# Altium footprint library C0805C105K3RACAUTO.PcbLib: 3 footprints
Each footprint in its own frame and in the unit in brackets; x right, y up, seen from the top. Pads: shape width x height; smd on the part's side, far side on the other; paste and mask are expansions set on the pad; w line width, h text height; cw(c..) or ccw(c..) is an arc to the next point about the centre after c.
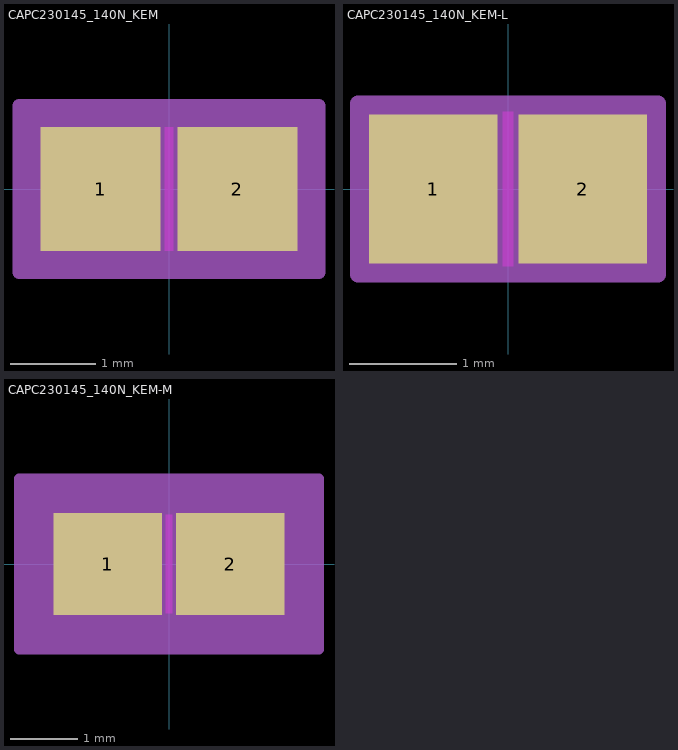
[diagram p0: the footprints below, top view; thin cyan lines are the x and y axes]

## CAPC230145_140N_KEM [mm]
pads (2):
  rect 1.406x1.45 smd paste+0 mask+0: 1(-0.803,0) 2(0.803,0)
Top Layer keep-out:
  region: -0.049,-0.674 -0.049,0.674 0.049,0.674 0.049,-0.674
Keep-Out Layer:
  region: -0.049,-0.725 -0.049,0.725 0.049,0.725 0.049,-0.725
Mechanical 13:
  lines w0.025: -1.15,-0.725 -1.15,0.725 ; -1.15,-0.725 -0.4,-0.725 -0.4,0.725 -1.15,0.725 ; -1.15,-0.725 1.15,-0.725 ; -1.15,-0.725 -1.15,0.725 ; -1.15,0.725 1.15,0.725 ; 1.15,-0.725 0.4,-0.725 0.4,0.725 1.15,0.725 ; 1.15,-0.725 1.15,0.725 ; 1.15,-0.725 1.15,0.725
Mechanical 15:
  region: 1.76,-0.979 -1.76,-0.979 -1.76,0.979 1.76,0.979
  lines w0.152: -1.76,-0.979 -1.76,0.979 1.76,0.979 1.76,-0.979 -1.76,-0.979
3D body "CAPC230145_140N_KEM.step": height 1.4, standoff 0, extent -1.15,-0.725 1.15,0.725

## CAPC230145_140N_KEM-L [mm]
pads (2):
  rect 1.202x1.399 smd paste+0 mask+0: 1(-0.701,0) 2(0.701,0)
Top Layer keep-out:
  region: -0.049,-0.674 -0.049,0.674 0.049,0.674 0.049,-0.674
Keep-Out Layer:
  region: -0.049,-0.725 -0.049,0.725 0.049,0.725 0.049,-0.725
Mechanical 13:
  lines w0.025: -1.15,-0.725 -1.15,0.725 ; -1.15,-0.725 -0.4,-0.725 -0.4,0.725 -1.15,0.725 ; -1.15,-0.725 1.15,-0.725 ; -1.15,-0.725 -1.15,0.725 ; -1.15,0.725 1.15,0.725 ; 1.15,-0.725 0.4,-0.725 0.4,0.725 1.15,0.725 ; 1.15,-0.725 1.15,0.725 ; 1.15,-0.725 1.15,0.725
Mechanical 15:
  region: 1.404,-0.801 -1.404,-0.801 -1.404,0.801 1.404,0.801
  lines w0.152: -1.404,-0.801 -1.404,0.801 1.404,0.801 1.404,-0.801 -1.404,-0.801
3D body "CAPC230145_140N_KEM.step": height 1.4, standoff 0, extent -1.15,-0.725 1.15,0.725

## CAPC230145_140N_KEM-M [mm]
pads (2):
  rect 1.609x1.501 smd paste+0 mask+0: 1(-0.904,0) 2(0.904,0)
Top Layer keep-out:
  region: -0.049,-0.674 -0.049,0.674 0.049,0.674 0.049,-0.674
Keep-Out Layer:
  region: -0.049,-0.725 -0.049,0.725 0.049,0.725 0.049,-0.725
Mechanical 13:
  lines w0.025: -1.15,-0.725 -1.15,0.725 ; -1.15,-0.725 -0.4,-0.725 -0.4,0.725 -1.15,0.725 ; -1.15,-0.725 1.15,-0.725 ; -1.15,-0.725 -1.15,0.725 ; -1.15,0.725 1.15,0.725 ; 1.15,-0.725 0.4,-0.725 0.4,0.725 1.15,0.725 ; 1.15,-0.725 1.15,0.725 ; 1.15,-0.725 1.15,0.725
Mechanical 15:
  region: 2.217,-1.258 -2.217,-1.258 -2.217,1.258 2.217,1.258
  lines w0.152: -2.217,-1.258 -2.217,1.258 2.217,1.258 2.217,-1.258 -2.217,-1.258
3D body "CAPC230145_140N_KEM.step": height 1.4, standoff 0, extent -1.15,-0.725 1.15,0.725